# Altium schematic symbol library Capacitors-PTH-Film.SchLib: 1 symbol
Pins are listed as number, name and electrical type; pins without a type are passive.

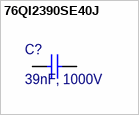
[diagram p0: symbol 76QI2390SE40J]

## 76QI2390SE40J
designator C?, comment 39nF, 1000V
CAP FILM AUTO POLYPROP RAD; Manufacturer: Yageo Group; Manufacturer Part Number: 76QI2390SE40J; Description: Film Capacitor, Polypropylene, 1000V, 5% +Tol, 5% -Tol, 0.039uF, Through Hole Mount; Dielectric: PP; Dielectric Material: Polypropylene; Lead Diameter: 800µm; Tolerance: 5%; Voltage Rating (AC): 600V; Voltage Rating (DC): 1kV; Supplier: DigiKey; Supplier Part Number: 399-R76QI2390SE40J-ND; RoHS: Compliant; Category: Film Capacitors; Stock: 469; Pricing: 1=1.27, 10=0.83, 50=0.6542, 100=0.5999, 500=0.5083, 1000=0.47996, 3000=0.44494, 5000=0.43198 (USD); Value: 39nF; Case/Package: Radial; Depth: 8.5mm; Export Control Classification Number (ECCN) Code: EAR99; Height: 14.5mm; Harmonized Tariff Schedule (HTS) Code: 8532.25.00.70; Introduction Date: 2012-07-30; Lead Pitch: 15mm; Length: 18mm; Lifecycle Status: Production; Max Operating Temperature: 110°C; Min Operating Temperature: -55°C; Mounting Technology: Through Hole; Number of Terminals: 2; Packaging: Bulk; Radiation Hardening: No; Ratings: AEC-Q200; REACH SVHC: Unaffected; Terminal Pitch: 15mm; Width: 8.5mm; ComponentLink1URL: https://datasheet.octopart.com:443/76QI2390SE40J-KEMET-datasheet-182036333.pdf?src-supplier=IHS; ComponentLink1Description: https://datasheet.octopart.com:443/76QI2390SE40J-KEMET-datasheet-182036333.pdf?src-supplier=IHS
footprint R76QI2390SE40J
pins: 1, 2